# Altium footprint library CAP.PcbLib: 63 footprints (part 2 of 4)
Each footprint in its own frame and in the unit in brackets; x right, y up, seen from the top. Pads: shape width x height; smd on the part's side, far side on the other; paste and mask are expansions set on the pad; w line width, h text height; cw(c..) or ccw(c..) is an arc to the next point about the centre after c.
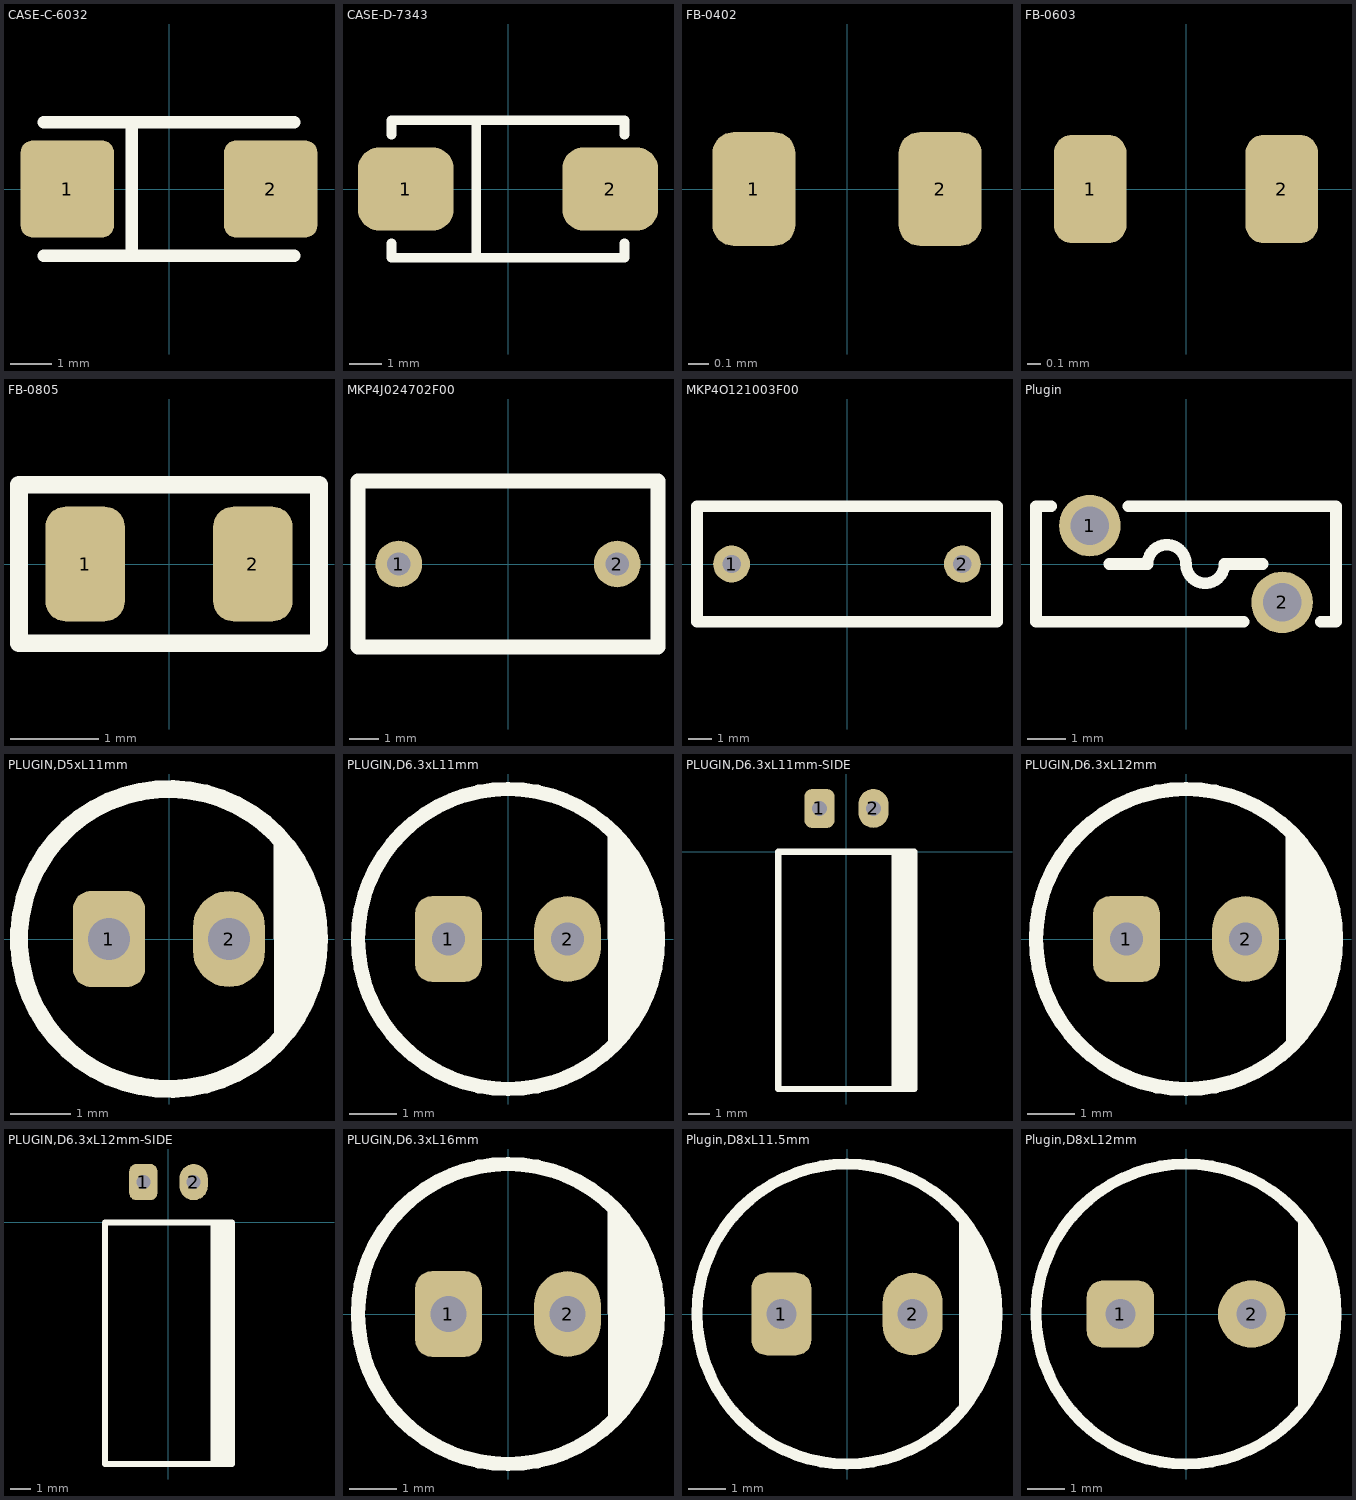
[diagram p1: the footprints below, top view; thin cyan lines are the x and y axes]

## CASE-C-6032 [mm]
pads (2):
  rrect25% 2.24x2.32 smd mask+0.15: 1(-2.435,0) 2(2.435,0)
Top Overlay:
  lines w0.3: -3,-1.6 3,-1.6 ; -3,1.6 3,1.6 ; -0.889,-1.524 -0.889,1.524
3D:
  lines w0.127: -3,-1.6 3,-1.6 ; -3,1.6 3,1.6
3D body "TAJC_AVX.step": height 2.85, standoff 0, extent -3.099,-1.702 3.099,1.702

## CASE-D-7343 [mm]
pads (2):
  rrect50% 3x2.6 smd mask+0.15: 1(-3.2,0) 2(3.2,0)
Top Overlay:
  lines w0.3: -3.65,-1.7 -3.65,-2.15 3.65,-2.15 3.65,-1.7 ; -3.65,1.7 -3.65,2.15 3.65,2.15 3.65,1.7 ; -1,-2.15 -1,2.15
3D body "D 7343-31.step": height 2.81, standoff 0, extent -3.65,-2.15 3.65,2.15

## FB-0402 [mm]
height 0.4
pads (2):
  rrect50% 0.4x0.55 smd: 1(-0.45,0) 2(0.45,0)
3D body "ferrite_bead_0402.STEP": height 0.5, standoff 0, extent -0.5,-0.25 0.5,0.25

## FB-0603 [mm]
pads (2):
  rrect50% 0.55x0.82 smd: 1(-0.725,0) 2(0.725,0)
3D body "ferrite_bead_0603.STEP": height 0.8, standoff 0, extent -0.8,-0.4 0.8,0.4

## FB-0805 [mm]
pads (2):
  rrect50% 0.9x1.3 smd: 1(-0.95,0) 2(0.95,0)
Top Overlay:
  lines w0.2: -1.7,-0.9 1.7,-0.9 1.7,0.9 -1.7,0.9 -1.7,-0.9
3D body "ferrite_bead_0805.STEP": height 0.9, standoff 0, extent -1,-0.6 1,0.6

## MKP4J024702F00 [mm]
pads (2):
  round 1.6 hole 0.8: 1(-3.75,0) 2(3.75,0)
Top Overlay:
  lines w0.5: -5.15,-2.85 -5.15,2.85 5.15,2.85 5.15,-2.85 -5.15,-2.85
3D body "MKP4_05_7WX12_5HX10_3L_WIM.step": height 12.5, standoff -4.37, extent -5.156,-2.84 5.156,2.85

## MKP4O121003F00 [mm]
pads (2):
  round 1.6 hole 0.8: 1(-5,0) 2(5,0)
Top Overlay:
  lines w0.5: -6.5,-2.5 -6.5,2.5 6.5,2.5 6.5,-2.5 -6.5,-2.5
3D body "MKP4_050WX110HX130L_WIM.step": height 11, standoff -4.37, extent -6.502,-2.504 6.502,2.5

## Plugin [mm]
pads (2):
  round 1.6 hole 1 mask+0.2: 1(-2.5,1) 2(2.5,-1)
Top Overlay:
  lines w0.3: -3.5,1.5 -3.9,1.5 -3.9,-1.5 1.5,-1.5 ; -1.998,0.006 -1.992,0 -1,0 cw(c-0.5,0) 0,0 ccw(c0.5,0) 1,0 1.996,0 ; -1.5,1.5 3.9,1.5 3.9,-1.5 3.5,-1.5
3D body "FUSE-RXEF025.stp": height 3.07, standoff -12.7, extent -3.697,-1.436 3.695,1.436

## PLUGIN,D5xL11mm [mm]
pads (2):
  rrect50% 1.2x1.6 hole 0.7: 1(-1,0)
  oval 1.2x1.6 hole 0.7: 2(1,0)
Top Overlay:
  circle w0.3: c0,0 r2.5
  region: 1.75,1.785 1.75,-1.785 1.928,-1.611 2.208,-1.198 2.401,-0.738 2.5,-0.249 2.5,0 2.5,0.249 2.401,0.738 2.208,1.198 1.928,1.611
3D body "UES1H2R2MDM1TD.STEP": height 12, standoff -19, extent -2.5,-2.5 2.5,2.5

## PLUGIN,D6.3xL11mm [mm]
pads (2):
  rrect50% 1.4x1.8 hole 0.7: 1(-1.25,0)
  oval 1.4x1.8 hole 0.7: 2(1.25,0)
Top Overlay:
  circle w0.3: c0,0 r3.15
  region: 2.1,2.348 2.1,-2.348 2.224,-2.237 2.446,-1.992 2.642,-1.724 2.808,-1.437 2.943,-1.135 3.046,-0.82 3.115,-0.495 3.15,-0.166 3.15,0 3.15,0.166 3.115,0.495 3.046,0.819 2.943,1.135 2.808,1.437 2.642,1.724 2.446,1.992 2.224,2.237
3D body "100uF_16V_electr_6.3_x11mm_-P.diameter_3.2mm-Black-White[1].stp": height 11.06, standoff -4.04, extent -3.15,-3.147 3.15,3.147

## PLUGIN,D6.3xL11mm-SIDE [mm]
pads (2):
  rrect50% 1.4x1.8 hole 0.7: 1(-1.25,2)
  oval 1.4x1.8 hole 0.7: 2(1.25,2)
Top Overlay:
  region: 2.1,0 2.1,-11 3.2,-11 3.2,0
  lines w0.3: -3.15,-11 -3.15,0 3.15,0 3.15,-11 -3.15,-11
3D body "ElCapRA-2.5-6.3x11[1].step": height 6.4, standoff -3, extent -3.15,-11 3.151,2.251

## PLUGIN,D6.3xL12mm [mm]
pads (2):
  rrect50% 1.4x1.8 hole 0.7: 1(-1.25,0)
  oval 1.4x1.8 hole 0.7: 2(1.25,0)
Top Overlay:
  circle w0.3: c0,0 r3.15
  region: 2.1,2.348 2.1,-2.348 2.224,-2.237 2.446,-1.992 2.642,-1.724 2.808,-1.437 2.943,-1.135 3.046,-0.82 3.115,-0.495 3.15,-0.166 3.15,0 3.15,0.166 3.115,0.495 3.046,0.819 2.943,1.135 2.808,1.437 2.642,1.724 2.446,1.992 2.224,2.237
3D body "Plugin,D6.3xL12mm.stp": height 12, standoff -3.57, extent -3.15,-3.148 3.15,3.148

## PLUGIN,D6.3xL12mm-SIDE [mm]
pads (2):
  rrect50% 1.4x1.8 hole 0.7: 1(-1.25,2)
  oval 1.4x1.8 hole 0.7: 2(1.25,2)
Top Overlay:
  region: 2.1,0 2.1,-12 3.2,-12 3.2,0
  lines w0.3: -3.15,-12 3.15,-12 3.15,0 -3.15,0 -3.15,-12
3D body "ElCapRA-2.5-6.3x12[1].step": height 6.4, standoff -3, extent -3.15,-12 3.151,2.251

## PLUGIN,D6.3xL16mm [mm]
pads (2):
  rrect50% 1.4x1.8 hole 0.75: 1(-1.25,0)
  oval 1.4x1.8 hole 0.75: 2(1.25,0)
Top Overlay:
  circle w0.3: c0,0 r3.15
  region: 2.1,2.348 2.1,-2.348 2.224,-2.237 2.446,-1.992 2.642,-1.724 2.808,-1.437 2.943,-1.135 3.046,-0.82 3.115,-0.495 3.15,-0.166 3.15,0 3.15,0.166 3.115,0.495 3.046,0.819 2.943,1.135 2.808,1.437 2.642,1.724 2.446,1.992 2.224,2.237

## Plugin,D8xL11.5mm [mm]
pads (2):
  rrect50% 1.6x2.2 hole 0.8: 1(-1.75,0)
  oval 1.6x2.2 hole 0.8: 2(1.75,0)
Top Overlay:
  circle w0.3: c0,0 r4
  region: 3,2.646 3,-2.646 3.12,-2.51 3.333,-2.218 3.52,-1.909 3.678,-1.583 3.806,-1.245 3.902,-0.897 3.967,-0.541 4,-0.181 4,0 4,0.181 3.967,0.541 3.902,0.897 3.806,1.245 3.678,1.583 3.52,1.909 3.333,2.218 3.12,2.51
3D body "User Library-Cap-EL(8x11_5-3_5).STEP": height 2.8, standoff -12, extent -4,-3.998 4.002,3.998

## Plugin,D8xL12mm [mm]
pads (2):
  rrect50% 1.8x1.8 hole 0.8: 1(-1.75,0)
  round 1.8 hole 0.8: 2(1.75,0)
Top Overlay:
  circle w0.3: c0,0 r4
  region: 3,2.646 3,-2.646 3.12,-2.51 3.333,-2.218 3.52,-1.909 3.678,-1.583 3.806,-1.245 3.902,-0.897 3.967,-0.541 4,-0.181 4,0 4,0.181 3.967,0.541 3.902,0.897 3.806,1.245 3.678,1.583 3.52,1.909 3.333,2.218 3.12,2.51
3D body "470uF 16V electr 8 x12mm -P.diameter 3.5mm-Black-White.stp": height 12.1, standoff -4, extent -4,-4 4,4